# Altium footprint library Pcblib_20110825.Pcblib: 407 footprints (part 25 of 26)
Each footprint in its own frame and in the unit in brackets; x right, y up, seen from the top. Pads: shape width x height; smd on the part's side, far side on the other; paste and mask are expansions set on the pad; w line width, h text height; cw(c..) or ccw(c..) is an arc to the next point about the centre after c.
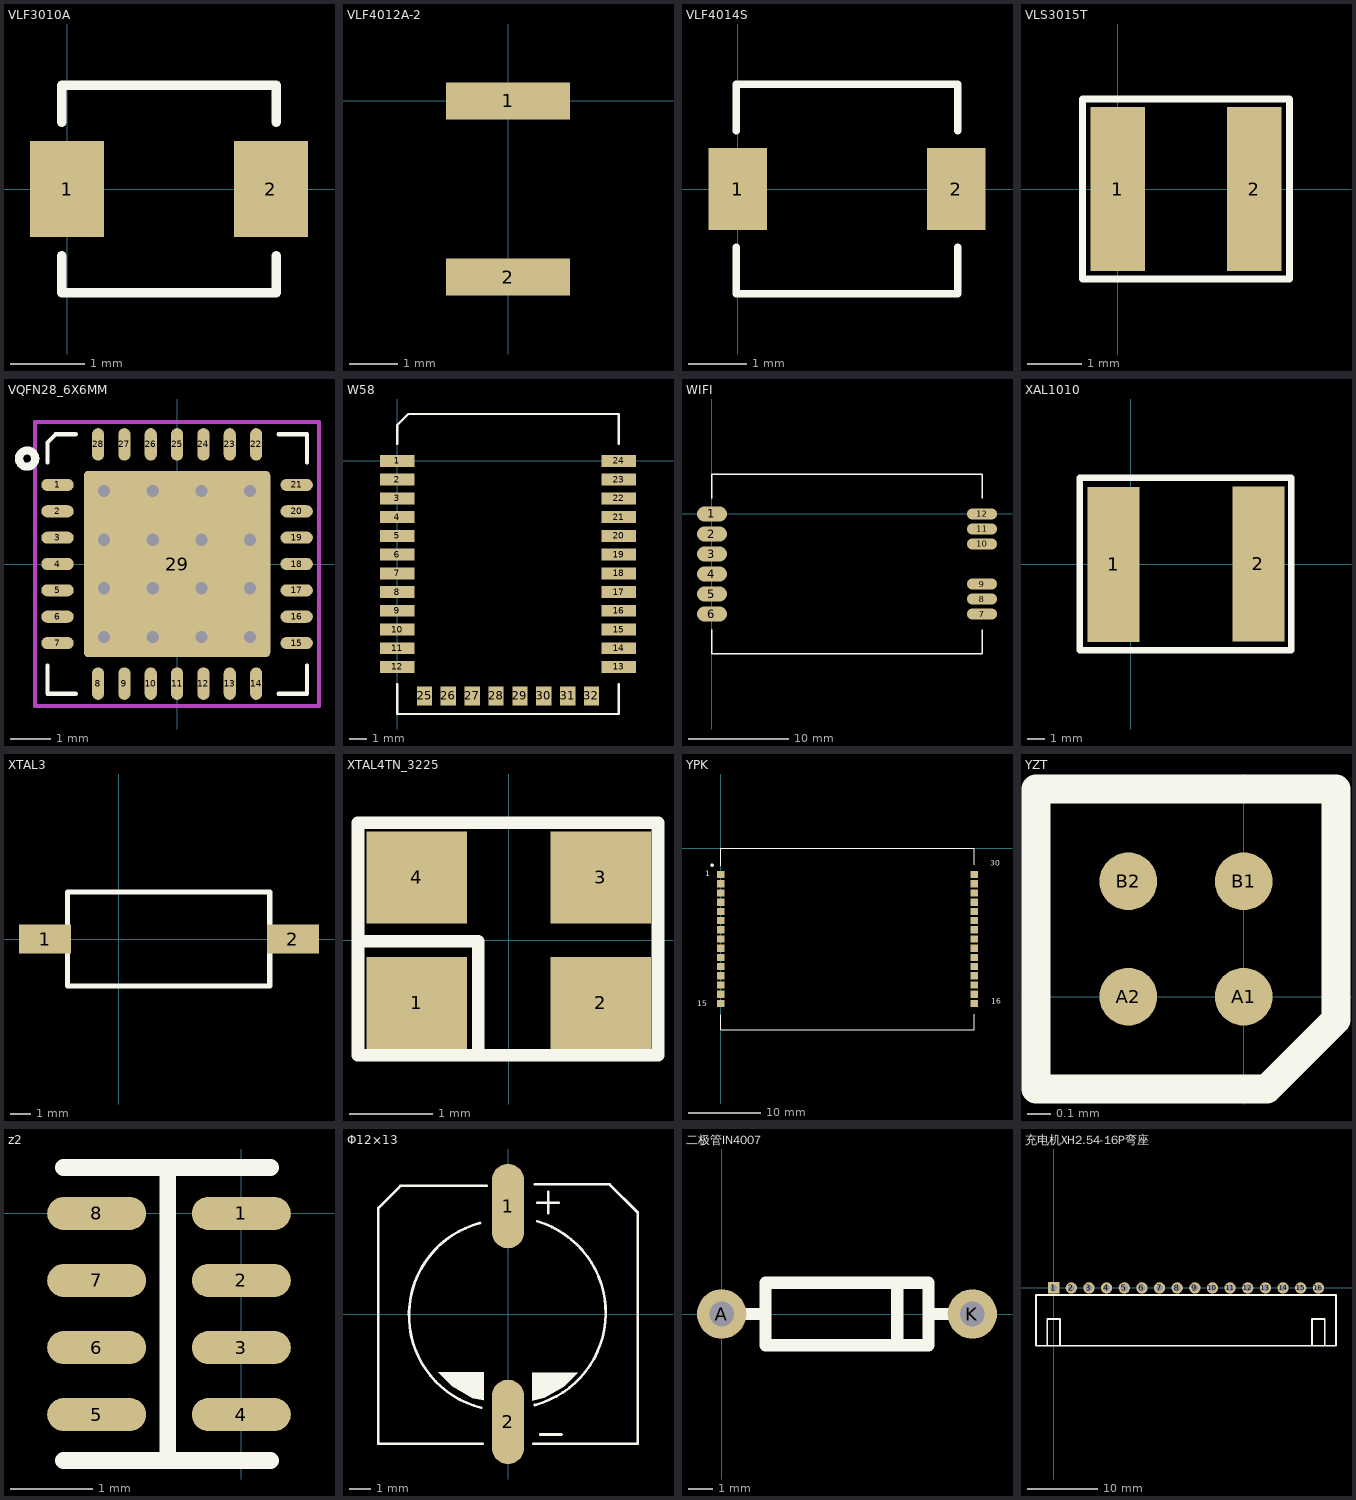
[diagram p24: the footprints below, top view; thin cyan lines are the x and y axes]

## VLF3010A [mm]
pads (2):
  rect 1x1.3 smd: 1(0,0) 2(2.75,0)
TopOverlay:
  lines w0.127: -0.075,-0.9 -0.075,-1.4 2.825,-1.4 2.825,-0.9 ; -0.075,0.9 -0.075,1.4 2.825,1.4 2.825,0.9

## VLF4012A-2 [mm]
pads (2):
  rect 2.54x0.76 smd: 1(0,0) 2(0,-3.607)

## VLF4014S [mm]
pads (2):
  rect 1x1.4 smd: 1(0,0) 2(3.75,0)
TopOverlay:
  lines w0.127: -0.025,-1 -0.025,-1.8 3.775,-1.8 3.775,-1 ; -0.025,1 -0.025,1.8 3.775,1.8 3.775,1

## VLS3015T [mm]
pads (2):
  rect 1x3 smd: 1(0,0) 2(2.5,0)
TopOverlay:
  lines w0.127: -0.65,-1.65 -0.65,1.65 3.15,1.65 3.15,-1.65 -0.65,-1.65

## VQFN28_6X6MM [mm] "28 Leads, Body 6.0x6.0mm, Pitch 0.65mm, VQFN28"
height 1
pads (29):
  oval 0.8x0.3 smd mask+0.05: 1(-2.95,1.95) 2(-2.95,1.3) 3(-2.95,0.65) 4(-2.95,0) 5(-2.95,-0.65) 6(-2.95,-1.3) 7(-2.95,-1.95) 15(2.95,-1.95) 16(2.95,-1.3) 17(2.95,-0.65) 18(2.95,0) 19(2.95,0.65) 20(2.95,1.3) 21(2.95,1.95)
  oval 0.3x0.8 smd mask+0.05: 8(-1.95,-2.95) 9(-1.3,-2.95) 10(-0.65,-2.95) 11(0,-2.95) 12(0.65,-2.95) 13(1.3,-2.95) 14(1.95,-2.95) 22(1.95,2.95) 23(1.3,2.95) 24(0.65,2.95) 25(0,2.95) 26(-0.65,2.95) 27(-1.3,2.95) 28(-1.95,2.95)
  rrect5% 4.6x4.6 smd paste-3.3 mask+0.05: 29(0,0)
via 0.6,-1.8 diameter 0.6 hole 0.3
via 1.8,-0.6 diameter 0.6 hole 0.3
via -1.8,1.8 diameter 0.6 hole 0.3
via -1.8,-0.6 diameter 0.6 hole 0.3
via -1.8,0.6 diameter 0.6 hole 0.3
via 0.6,-0.6 diameter 0.6 hole 0.3
via 1.8,-1.8 diameter 0.6 hole 0.3
via -0.6,-1.8 diameter 0.6 hole 0.3
via -1.8,-1.8 diameter 0.6 hole 0.3
via -0.6,1.8 diameter 0.6 hole 0.3
via -0.6,0.6 diameter 0.6 hole 0.3
via -0.6,-0.6 diameter 0.6 hole 0.3
via 0.6,0.6 diameter 0.6 hole 0.3
via 0.6,1.8 diameter 0.6 hole 0.3
via 1.8,1.8 diameter 0.6 hole 0.3
via 1.8,0.6 diameter 0.6 hole 0.3
TopOverlay:
  circle w0.2: c-3.7,2.6 r0.2
  lines w0.1: -3.2,-2.5 -3.2,-3.2 -2.5,-3.2 ; -3.2,2.5 -3.2,3 -3,3.2 -2.5,3.2 ; 2.5,-3.2 3.2,-3.2 3.2,-2.5 ; 2.5,3.2 3.2,3.2 3.2,2.5
TopPaste:
  region: -1.6,-0.8 -1.6,-1.6 -0.8,-1.6 -0.8,-0.8
  region: 0.8,-0.8 0.8,-1.6 1.6,-1.6 1.6,-0.8
  region: -0.4,-0.8 -0.4,-1.6 0.4,-1.6 0.4,-0.8
  region: 0.8,0.4 0.8,-0.4 1.6,-0.4 1.6,0.4
  region: -1.6,1.6 -1.6,0.8 -0.8,0.8 -0.8,1.6
  region: -0.4,1.6 -0.4,0.8 0.4,0.8 0.4,1.6
  region: -1.6,0.4 -1.6,-0.4 -0.8,-0.4 -0.8,0.4
  region: -0.4,0.4 -0.4,-0.4 0.4,-0.4 0.4,0.4
  region: 0.8,1.6 0.8,0.8 1.6,0.8 1.6,1.6
Mechanical15 keep-out:
  lines w0.1: -3.5,-3.5 -3.5,3.5 3.5,3.5 3.5,-3.5 -3.5,-3.5
3D body: height 1, standoff 0.05, extent -3,-3 3,3

## W58 [mm]
pads (32):
  rect 2x0.7 smd: 1(0,0) 2(0,-1.1) 3(0,-2.2) 4(0,-3.3) 5(0,-4.4) 6(0,-5.5) 7(0,-6.6) 8(0,-7.7) 9(0,-8.8) 10(0,-9.9) 11(0,-11) 12(0,-12.1) 13(13,-12.1) 14(13,-11) 15(13,-9.9) 16(13,-8.8) 17(13,-7.7) 18(13,-6.6) 19(13,-5.5) 20(13,-4.4) 21(13,-3.3) 22(13,-2.2) 23(13,-1.1) 24(13,0)
  rect 0.9x1.1 smd: 25(1.6,-13.8) 26(3,-13.8) 27(4.4,-13.8) 28(5.8,-13.8) 29(7.2,-13.8) 30(8.6,-13.8) 31(10,-13.8) 32(11.4,-13.8)
TopOverlay:
  lines w0.127: 0,-14.859 0,-13.109 ; 0,-14.85 13,-14.85 13,-13.1 ; 0,1 0,2.108 0.642,2.75 13,2.75 13,1

## WIFI [mm]
pads (12):
  oval 3x1.5 smd: 1(0,0) 2(0,-2) 3(0,-4) 4(0,-6) 5(0,-8) 6(0,-10)
  oval 3x1.1 smd: 7(27,-10) 8(27,-8.5) 9(27,-7) 10(27,-3) 11(27,-1.5) 12(27,0)
TopOverlay:
  lines w0.127: 0,-11.575 0,-13.95 27,-13.95 27,-11.575 ; 0,1.575 0,3.95 27,3.95 27,1.575

## XAL1010 [mm]
pads (2):
  rect 3x9 smd: 1(-0.991,0) 2(7.417,0.025)
TopOverlay:
  lines w0.381: -2.946,-4.978 -2.946,5.022 9.322,5.022 9.322,-4.978 -2.946,-4.978

## XTAL3 [mm]
pads (2):
  rect 2.54x1.397 smd: 1(-3.6,0) 2(8.5,0)
TopOverlay:
  lines w0.254: -2.5,-2.3 -2.5,2.3 7.366,2.3 7.366,-2.3 -2.5,-2.3

## XTAL4TN_3225 [mm]
height 1.4
pads (4):
  rect 1.2x1.1 smd: 1(-1.1,-0.75) 2(1.1,-0.75) 3(1.1,0.75) 4(-1.1,0.75)
TopOverlay:
  lines w0.15: -1.749,-0.012 -0.363,-0.012 ; -0.363,-1.333 -0.363,-0.022 ; -1.8,-1.376 1.786,-1.376 1.786,1.4 -1.8,1.4 -1.8,-1.376

## YPK [mm]
pads (30):
  rect 1x1 smd: 1(0,-3.61) 2(0,-4.88) 3(0,-6.15) 4(0,-7.42) 5(0,-8.69) 6(0,-9.96) 7(0,-11.23) 8(0,-12.5) 9(0,-13.77) 10(0,-15.04) 11(0,-16.31) 12(0,-17.58) 13(0,-18.85) 14(0,-20.12) 15(0,-21.39) 16(35,-21.39) 17(35,-20.12) 18(35,-18.85) 19(35,-17.58) 20(35,-16.31) 21(35,-15.04) 22(35,-13.77) 23(35,-12.5) 24(35,-11.23) 25(35,-9.96) 26(35,-8.69) 27(35,-7.42) 28(35,-6.15) 29(35,-4.88) 30(35,-3.61)
TopOverlay:
  lines w0.127: 0,-22.936 0,-25 35,-25 35,-22.859 ; 0,-2.388 0,0 35,0 35,-2.259
  lines w0.254: -1.088,-2.331 cw(c-1.194,-2.311) -1.086,-2.311
  text "30" at 37.236,-2.388 h0.76
  text "16" at 37.389,-21.463 h0.76
  text "15" at -3.277,-21.819 h0.76
  text "1" at -2.108,-3.861 h0.76

## YZT [mm]
pads (4):
  round 0.25 smd: A1(0,0) A2(-0.5,0) B1(0,0.5) B2(-0.5,0.5)
TopOverlay:
  lines w0.127: -0.9,-0.4 -0.9,0.9 0.4,0.9 0.4,-0.1 0.1,-0.4 -0.9,-0.4

## z2 [mm]
height 1.75
pads (8):
  oval 1.2x0.4 smd: 1(0,0) 2(0,-0.813) 3(0,-1.626) 4(0,-2.438) 5(-1.755,-2.438) 6(-1.755,-1.626) 7(-1.755,-0.813) 8(-1.755,0)
TopOverlay:
  lines w0.203: -2.161,0.559 0.353,0.559 ; -0.891,0.559 -0.891,-2.997 -2.161,-2.997 0.353,-2.997

## Φ12×13 [mm]
pads (2):
  oval 1.524x4 smd: 1(0,5.114) 2(0,-5.114)
TopOverlay:
  region: -1.664,-4 -2.235,-3.429 -1.829,-3.429 -1.156,-4.102
  region: -2.642,-3.429 -2.235,-3.429 -1.664,-4
  region: -2.235,-3.429 -2.642,-3.429 -3.315,-2.756
  region: -1.156,-4.102 -2.502,-2.756 -3.315,-2.756
  region: -1.156,-2.756 -1.156,-4.102 -2.502,-2.756
  region: 1.727,-3.962 2.235,-3.454 1.803,-3.454 1.143,-4.115
  region: 2.642,-3.454 2.235,-3.454 1.727,-3.962
  region: 3.302,-2.794 2.642,-3.454 2.222,-3.454
  region: 1.143,-4.115 2.464,-2.794 3.302,-2.794
  region: 1.143,-2.794 1.143,-4.115 2.464,-2.794
  lines w0.127: -6.15,-6.147 -6.15,3.81 ; -6.147,-6.147 -1.213,-6.15 ; -6.147,3.607 -6.147,5.029 -5.096,6.08 -1.016,6.08 ; -1.33,4.314 ccw(c-0.173,-0.058) -1.27,-4.445 ; 1.213,-6.15 6.144,-6.15 6.15,-6.144 6.15,3.867 ; 1.27,-4.318 ccw(c0.113,0.054) 1.389,4.392 ; 1.27,6.15 4.823,6.15 6.147,4.826 6.147,3.759 ; 1.397,5.283 2.413,5.283 ; 1.524,-5.715 2.54,-5.715 ; 1.905,4.775 1.905,5.791

## 二极管IN4007 [mm]
height 1.55
pads (2):
  round 2 hole 1: A(0,0) K(10.16,0)
TopOverlay:
  lines w0.5: 0,0 1.778,0 ; 7.112,-1.27 7.112,1.27 ; 8.382,0 10.16,0 ; 1.778,-1.27 1.778,1.27 8.382,1.27 8.382,-1.27 1.778,-1.27

## 充电机XH2.54-16P弯座 [mm]
height 1.55
pads (16):
  rect 1.6x1.6 hole 1: 1(0,0)
  round 1.6 hole 1: 2(2.5,0) 3(5,0) 4(7.5,0) 5(10,0) 6(12.5,0) 7(15,0) 8(17.5,0) 9(20,0) 10(22.5,0) 11(25,0) 12(27.5,0) 13(30,0) 14(32.5,0) 15(35,0) 16(37.5,0)
TopOverlay:
  lines w0.254: -0.9,-8.2 -0.9,-4.4 0.9,-4.4 0.9,-8.2 ; 36.6,-8.2 36.6,-4.4 38.4,-4.4 38.4,-8.2 ; -2.5,-8.2 40,-8.2 40,-1 -2.5,-1 -2.5,-8.2